# EAGLE library part DPS310XTSA1 (library DPS310XTSA1)
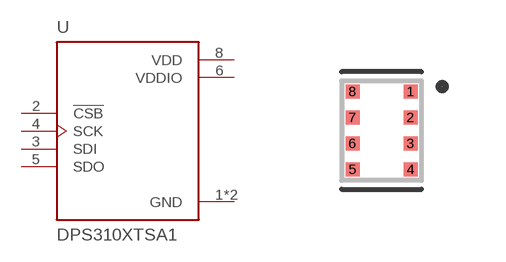
[diagram p0: symbol with the pads of XDCR_DPS310XTSA1; footprint XDCR_DPS310XTSA1]

Designator prefix U

## DPS310XTSA1 (AVAILABILITY: Unavailable; DESCRIPTION: Supply voltage range 1.7V to 3.6V | Operation range 300hPa 1200hPa | Sensors precision 0.005hPa | Relative accuracy 0.06hPa | Pressure temperature sensitivity of 0.5Pa/K | Temperature accuracy 0.5C; MF: Infineon; MP: DPS310XTSA1; PACKAGE: LGA-8 Infineon; PRICE: None)  [XDCR_DPS310XTSA1]
1  GND  pwr
2  !CSB  in
3  SDI
4  SCK  in
5  SDO  out
6  VDDIO  pwr
7  GND  pwr
8  VDD  pwr

## Footprint XDCR_DPS310XTSA1 (pad centres in mm)
smd 0.35 x 0.35: 1 0.725,0.975; 2 0.725,0.325; 3 0.725,-0.325; 4 0.725,-0.975; 5 -0.725,-0.975; 6 -0.725,-0.325; 7 -0.725,0.325; 8 -0.725,0.975